# EAGLE library part SDIL8 (library divers)
DIL switch 8 lines
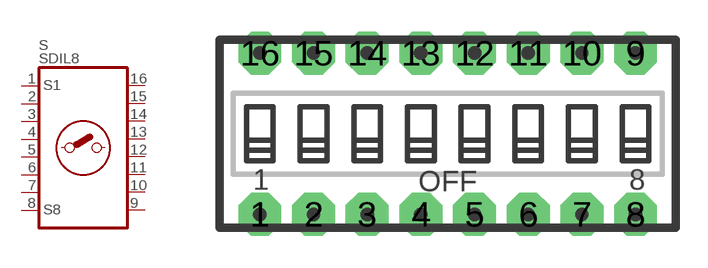
[diagram p9: symbol with the pads of SDIL08N; footprint SDIL08N]

Designator prefix S

## SDIL8  [SDIL08N]
1  1A
2  2A
3  3A
4  4A
5  5A
6  6A
7  7A
8  8A
9  8B
10  7B
11  6B
12  5B
13  4B
14  3B
15  2B
16  1B

## Footprint SDIL08N (pad centres in mm)
DIL switch 8 lines
drill 0.889 pad 2.032 octagon: 1 -8.89,-3.81; 2 -6.35,-3.81; 3 -3.81,-3.81; 4 -1.27,-3.81; 5 1.27,-3.81; 6 3.81,-3.81; 7 6.35,-3.81; 8 8.89,-3.81; 9 8.89,3.81; 10 6.35,3.81; 11 3.81,3.81; 12 1.27,3.81; 13 -1.27,3.81; 14 -3.81,3.81; 15 -6.35,3.81; 16 -8.89,3.81